# Altium footprint library MOSFET(N-CH, 20V, 2.8A, SOT-23-3).PcbLib: 3 footprints
Each footprint in its own frame and in the unit in brackets; x right, y up, seen from the top. Pads: shape width x height; smd on the part's side, far side on the other; paste and mask are expansions set on the pad; w line width, h text height; cw(c..) or ccw(c..) is an arc to the next point about the centre after c.
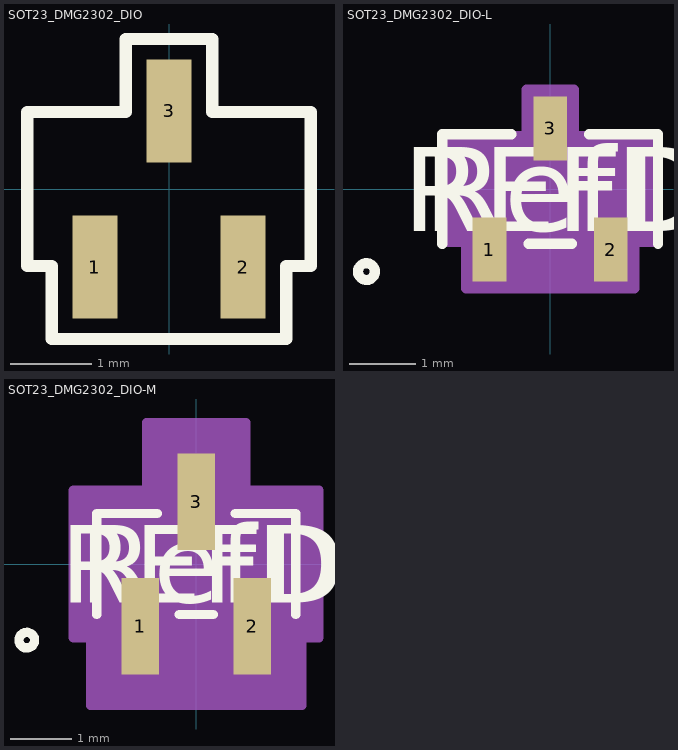
[diagram p0: the footprints below, top view; thin cyan lines are the x and y axes]

## SOT23_DMG2302_DIO [mil]
pads (3):
  rect 22x50 smd paste+0 mask+0: 1(-36.02,-38) 2(36.02,-38) 3(0,38)
Top Overlay:
  lines w6: -69,-37.5 -69,37.5 -21,37.5 -21,73 21,73 21,37.5 69,37.5 69,-37.5 57.02,-37.5 57.02,-73 -57.02,-73 -57.02,-37.5 -69,-37.5
3D body "SOT23_DMG2302_DIO.step": height 43.11, standoff 0, extent -59.02,-49.02 59.02,49.02

## SOT23_DMG2302_DIO-L [mil]
pads (3):
  rect 20x38 smd paste+0 mask+0: 1(-36.02,-36) 2(36.02,-36) 3(0,36)
Top Overlay:
  circle w6: c-109,-49 r5
  lines w6: -64,-32.5 -64,32.5 -23.1,32.5 ; -12.92,-32.5 12.92,-32.5 ; 23.1,32.5 64,32.5 64,-32.5
  text "REFDES" at -87.5,-25 h50
  text "RefDes" at -75,-25 h50
Mechanical 13:
  circle w0: c-49,-17.5 r5
  lines w1: -59,-27.5 59,-27.5 59,27.5 -59,27.5 -59,-27.5 ; -46.02,-49 -46.02,-27.5 -26.02,-27.5 -26.02,-49 -46.02,-49 ; -10,27.5 10,27.5 10,49 -10,49 -10,27.5 ; 26.02,-49 26.02,-27.5 46.02,-27.5 46.02,-49 26.02,-49
  text "RefDes2" at -87.5,-25 h50
Mechanical 15:
  region: -63,-31.5 -63,31.5 -14,31.5 -14,59 14,59 14,31.5 63,31.5 63,-31.5 50.02,-31.5 50.02,-59 -50.02,-59 -50.02,-31.5
  region: 59,-27.5 -59,-27.5 -59,27.5 59,27.5
  lines w6: -63,-31.5 -63,31.5 -14,31.5 -14,59 14,59 14,31.5 63,31.5 63,-31.5 50.02,-31.5 50.02,-59 -50.02,-59 -50.02,-31.5 -63,-31.5
3D body "SOT23_DMG2302_DIO.step": height 43.11, standoff 0, extent -59.02,-49.02 59.02,49.02

## SOT23_DMG2302_DIO-M [mil]
pads (3):
  rect 24x62 smd paste+0 mask+0: 1(-36.02,-40) 2(36.02,-40) 3(0,40)
Top Overlay:
  circle w6: c-109,-49 r5
  lines w6: -64,-32.5 -64,32.5 -25.1,32.5 ; -10.92,-32.5 10.92,-32.5 ; 25.1,32.5 64,32.5 64,-32.5
  text "REFDES" at -87.5,-25 h50
  text "RefDes" at -75,-25 h50
Mechanical 13:
  circle w0: c-49,-17.5 r5
  lines w1: -59,-27.5 59,-27.5 59,27.5 -59,27.5 -59,-27.5 ; -46.02,-49 -46.02,-27.5 -26.02,-27.5 -26.02,-49 -46.02,-49 ; -10,27.5 10,27.5 10,49 -10,49 -10,27.5 ; 26.02,-49 26.02,-27.5 46.02,-27.5 46.02,-49 26.02,-49
  text "RefDes2" at -87.5,-25 h50
Mechanical 15:
  region: -79,-47.5 -79,47.5 -32,47.5 -32,91 32,91 32,47.5 79,47.5 79,-47.5 68.02,-47.5 68.02,-91 -68.02,-91 -68.02,-47.5
  region: 59,-27.5 -59,-27.5 -59,27.5 59,27.5
  lines w6: -79,-47.5 -79,47.5 -32,47.5 -32,91 32,91 32,47.5 79,47.5 79,-47.5 68.02,-47.5 68.02,-91 -68.02,-91 -68.02,-47.5 -79,-47.5
3D body "SOT23_DMG2302_DIO.step": height 43.11, standoff 0, extent -59.02,-49.02 59.02,49.02